# EAGLE library part JST-XH-9 (library custom)
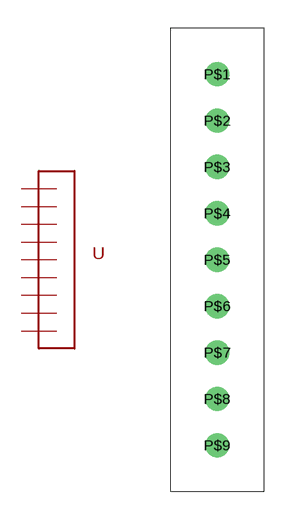
[diagram p2: symbol with the pads of 9PIN-2.5MM; footprint 9PIN-2.5MM]

Designator prefix -

## JST-XH-9  [9PIN-2.5MM]
P$1  P$1
P$2  P$2
P$3  P$3
P$4  P$4
P$5  P$5
P$6  P$6
P$7  P$7
P$8  P$8
P$9  P$9

## Footprint 9PIN-2.5MM (pad centres in mm)
drill 0.8: P$1 0,0; P$2 0,-2.5; P$3 0,-5; P$4 0,-7.5; P$5 0,-10; P$6 0,-12.5; P$7 0,-15; P$8 0,-17.5; P$9 0,-20